# Altium schematic symbol library 1.2 - 存储器-传感元件.SchLib: 25 symbols
Pins are listed as number, name and electrical type; pins without a type are passive.

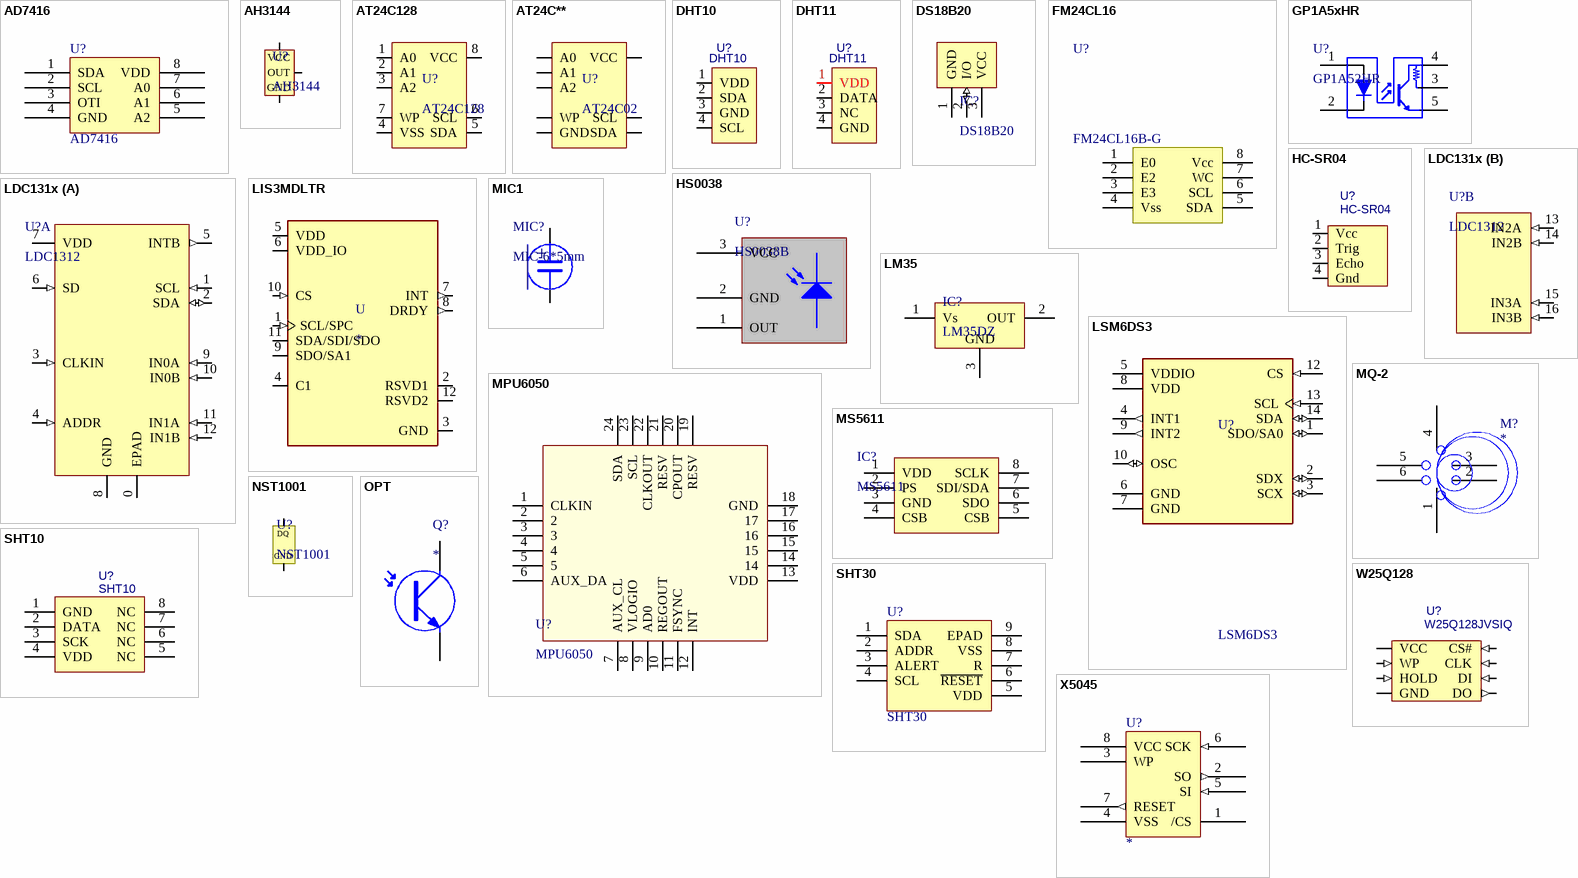
[diagram p0: symbols AD7416 to X5045]

## AD7416
designator U?
数字温度传感器
footprint SOIC-8_150mil (封装库来自淘宝卖家 ID：黄晶宝石)
pins: 1 SDA, 2 SCL, 3 OTI, 4 GND, 5 A2, 6 A1, 7 A0, 8 VDD

## AH3144
designator U?
单极霍尔开关; 封装库来自 淘宝卖家 ID：黄晶宝石: 其他店铺购入均为盗版假冒封装库，请立即申请退款; BOM名称: 单极霍尔开关
footprint TO92UA (92晶体管); pin to pad 2>3 3>2
footprint SOT23-3l (SOT23, 3-Leads, Body 2.9x1.3mm, Pitch 0.95mm, Lead Span 2.4mm, IPC High Density)
footprint SOT23-3M (SOT23, 3-Leads, Body 2.9x1.3mm, Pitch 0.95mm, Lead Span 2.4mm, IPC Low Density)
footprint SOT23-3N (SOT23, 3-Leads, Body 2.9x1.3mm, Pitch 0.95mm, Lead Span 2.4mm, IPC Medium Density)
pins: 1 VCC, 2 GND, 3 OUT

## AT24C128
designator U?
EEROM存储器; 联系卖家，免费查找封装: 唯一出售店铺网址https://shop463601444.taobao.com
footprint SOIC-8W (25Q128 SPI_FLASH  SOIC8)
footprint SOIC-8W_L (25Q128 SPI_FLASH  SOIC8)
footprint SOP8_N (5*6*1.8mm（长宽高）)
footprint SOP8_L (5*6*1.8mm（长宽高）)
footprint SOP8_M (5*6*1.8mm（长宽高）)
pins: 1 A0, 2 A1, 3 A2, 4 VSS, 5 SDA, 6 SCL, 7 WP, 8 VCC

## AT24C**
designator U?, comment AT24C02
EEROM存储器; 联系卖家，免费查找封装: 唯一出售店铺网址https://shop463601444.taobao.com
footprint SOP8_N (5*6*1.8mm（长宽高）)
footprint SOP8_L (5*6*1.8mm（长宽高）)
footprint SOP8_M (5*6*1.8mm（长宽高）)
footprint SOT23-5L (SOT23, 5-Leads, Body 2.9x1.6mm, Pitch 0.95mm, IPC High Density); pin to pad 1>none 2>none 3>none 4>2 5>3 6>1 7>5 8>4
footprint SOT23-5M (SOT23, 5-Leads, Body 2.9x1.6mm, Pitch 0.95mm, IPC Low Density); pin to pad 1>none 2>none 3>none 4>2 5>3 6>1 7>5 8>4
footprint SOT23-5N (SOT23, 5-Leads, Body 2.9x1.6mm, Pitch 0.95mm, IPC Medium Density); pin to pad 1>none 2>none 3>none 4>2 5>3 6>1 7>5 8>4
footprint TSSOP8 (TSSOP-8_L3.0-W4.4-H1.0-LS6.4-P0.65  封装库来自淘宝卖家 ID：黄晶宝石)
footprint TSSOP8_L (TSSOP-8_L3.0-W4.4-H1.0-LS6.4-P0.65)
footprint TSSOP8_M (TSSOP-8_L3.0-W4.4-H1.0-LS6.4-P0.65)
footprint TSSOP8_N (SSOP-8_L3.0-W4.4-H1.0-LS6.4-P0.65)
pins: 1 A0, 2 A1, 3 A2, 4 GND, 5 SDA, 6 SCL, 7 WP, 8 VCC

## DHT10
designator U?
温湿度传感器; 封装库来自 淘宝卖家 ID：黄晶宝石: 其他店铺购入均为盗版假冒封装库，请立即申请退款
footprint HDR2.54-M-LI-4P (排母，4脚  淘宝ID:黄晶宝石   店铺网址:https://shop463601444.taobao.com)
pins: 1 VDD, 2 SDA, 3 GND, 4 SCL

## DHT11
designator U?
电容式温湿度传感器; 封装库来自 淘宝卖家 ID：黄晶宝石: 其他店铺购入均为盗版假冒封装库，请立即申请退款
footprint HT11A
pins: 1 VDD, 2 DATA, 3 NC, 4 GND

## DS18B20
designator IC?
数字温度计; 联系卖家，免费查找封装: 唯一出售店铺网址https://shop463601444.taobao.com; BOM名称: 数字温度计
footprint TO92A (92晶体管)
footprint TO92B (92晶体管)
pins: 1 GND (power), 2 I/O (io), 3 VCC (power)

## FM24CL16
designator U?, comment FM24CL16B-G
铁电存储器; 联系卖家，免费查找封装: 唯一出售店铺网址https://shop463601444.taobao.com
footprint SOIC-8_150MIL (封装库来自淘宝卖家 ID：黄晶宝石)
pins: 1 E0, 2 E2, 3 E3, 4 Vss, 5 SDA, 6 SCL, 7 WC, 8 Vcc

## GP1A5xHR
designator U?, comment GP1A52HR
槽间光电开关; 封装库来自 淘宝卖家 ID：黄晶宝石: 其他店铺购入均为盗版假冒封装库，请立即申请退款; BOM名称: 槽间光电开关
footprint GP1A52HR (长: 12.5mm,宽:5mm,高:10mm,槽宽:3mm)
footprint GP1A53HR (长: 14mm,宽:5.2mm,高:10mm,槽宽:5mm)
pins: 1 A, 2 K, 3, 4, 5

## HC-SR04
designator U?
超声波模块; 唯一出售店铺网址https://shop463601444.taobao.com: 其他店铺购入均为盗版假冒封装库，请立即申请退款; 联系卖家 免费查找封装: 封装库来自淘宝卖家 ID：黄晶宝石; BOM名称: 超声波模块
footprint DIPP2.54
pins: 1 Vcc, 2 Trig, 3 Echo, 4 Gnd

## HS0038
designator U?, comment HS0038B
红外接收器; 封装库来自 淘宝卖家 ID：黄晶宝石: 其他店铺购入均为盗版假冒封装库，请立即申请退款
footprint HS0038B (红外接收头)
pins: 1 OUT, 2 GND, 3 VCC

## LDC131x
designator U?, comment LDC1312
The LDC1312 and LDC1314 is an inductance-to-digital converter (LDC) that measures the oscillation frequency of / multiple LC resonators.; Mfr_Name: Texas Instruments; Manufacturer_Part_Number: LDC1312DNTR; Copyright: Copyright (C) 2023 Ultra Librarian. All rights reserved.; RefDes: RefDes; Type: DEV
footprint WQFN16_4x4_L
footprint WSON12-L
footprint WSON12-M
footprint WSON12
part A pins: 0 EPAD, 1 SCL (in) "I2C Clock input", 2 SDA (io) "I2C Data input/output.", 3 CLKIN (in) "External Reference Clock input. Tie this pin to GND if internal oscillator is used.", 4 ADDR (in) "I2C Address selection pin: when ADDR=L, I2C address = 0x2A, when ADDR=H, I2C address = 0x2B. This input must not be allowed to float.", 5 INTB (out) "Configurable Interrupt output pin. Push-pull output; does not require pullup.", 6 SD (in) "Shutdown input: set SD = L for normal operation, set SD=H for inactive mode. This input must not be allowed to float.", 7 VDD (power), 8 GND (power), 9 IN0A (in) "External LC sensor 0 connection", 10 IN0B (in) "External LC sensor 0 connection", 11 IN1A (in) "External LC sensor 1 connection", 12 IN1B (in) "External LC sensor 1 connection"
part B pins: 13 IN2A (in) "External LC sensor 2 connection (LDC1314 only)", 14 IN2B (in) "External LC sensor 2 connection (LDC1314 only)", 15 IN3A (in) "External LC sensor 3 connection (LDC1314 only)", 16 IN3B (in) "External LC sensor 3 connection (LDC1314 only)"

## LIS3MDLTR
designator U
Magnetoresistive Sensor X, Y, Z Axis LGA-12 _2x2; MF: STMicroelectronics; MP: LIS3MDLTR; Availability: Unavailable; Price: None; SnapEDA_Link: https://www.snapeda.com/parts/LIS3MDLTR/STMicroelectronics/view-part/382740/?ref=snap; Package: VFLGA-12 STMicroelectronics; Value: *
footprint LGA-12-2x2
pins: 1 SCL/SPC (in), 2 RSVD1, 3 GND (power), 4 C1, 5 VDD (power), 6 VDD_IO (power), 7 INT (out), 8 DRDY (out), 9 SDO/SA1 (io), 10 CS (in), 11 SDA/SDI/SDO (io), 12 RSVD2

## LM35
designator IC?, comment LM35DZ
精密温度传感器; 联系卖家，免费查找封装: 唯一出售店铺网址https://shop463601444.taobao.com; BOM名称: 精密温度传感器
footprint TO92A (92晶体管)
footprint TO92B (92晶体管)
pins: 1 Vs, 2 OUT, 3 GND

## LSM6DS3
designator U?
Accelerometer, Gyroscope, Temperature, 6 Axis Sensor, I2C/SPI Output; Manufacturer: STMicroelectronics; value: LSM6DS3TR
footprint LGA-14_L3.0-W2.5-P0.50-TL
pins: 1 SDO/SA0 (io), 2 SDX (io), 3 SCX (io), 4 INT1 (out), 5 VDDIO (power), 6 GND (power), 7 GND (power), 8 VDD (power), 9 INT2 (out), 10 OSC (io), 12 CS (in), 13 SCL (in), 14 SDA (io)

## MIC1
designator MIC?, comment MIC-6*5mm
电容麦克风; 封装库来自 淘宝卖家 ID：黄晶宝石: 其他店铺购入均为盗版假冒封装库，请立即申请退款; BOM名称: 电容麦克风
footprint MIC-6*5.5mm (咪咪头)
footprint MIC-4.5*1.9 (咪咪头)
pins: 1, 2
text: +

## MPU6050
designator U?
三轴加速度+三轴陀螺仪; 联系卖家，免费查找封装: 唯一出售店铺网址https://shop463601444.taobao.com
footprint QFN24 4x4_M (24脚，长x宽x高：4x4x1mm，脚距：0.5mm)
footprint QFN24 4x4_N (24脚，长x宽x高：4x4x1mm，脚距：0.5mm)
pins: 1 CLKIN, 2, 3, 4, 5, 6 AUX_DA, 7 AUX_CL, 8 VLOGIO, 9 AD0, 10 REGOUT, 11 FSYNC, 12 INT, 13 VDD, 14, 15, 16, 17, 18 GND, 19 RESV, 20 CPOUT, 21 RESV, 22 CLKOUT, 23 SCL, 24 SDA

## MQ-2
designator M?
气体传感器; 联系卖家，免费查找封装: 唯一出售店铺网址https://shop463601444.taobao.com
footprint MQ-2 (Footprint not found)
pins: 1 H1, 2, 3 A1, 4 H2, 5 A2, 6 B2
1 alternate drawing of the same symbol

## MS5611
designator IC?
气压传感器; 封装库来自 淘宝卖家 ID：黄晶宝石: 其他店铺购入均为盗版假冒封装库，请立即申请退款; BOM名称: 气压传感器
footprint MS5611 (气压传感芯片)
pins: 1 VDD, 2 PS, 3 GND, 4 CSB, 5 CSB, 6 SDO, 7 SDI/SDA, 8 SCLK

## NST1001
designator U?
温度传感器，高精度双引脚数字脉冲输出
footprint TO92C (TO, Flat Index; 3 In-Line, Axial Leads; Body Dia. 4.5mm; Leads 0.51 x 0.48 mm (max)); pin to pad 2>3
footprint DFN2L (DFN-2_L1.6-W0.8-H0.5-P0.85)
pins: 1 DO, 2 GND
text: DQ

## OPT
designator Q?
红外接收管; 封装库来自 淘宝卖家 ID：黄晶宝石: 其他店铺购入均为盗版假冒封装库，请立即申请退款; BOM名称: 红外接收管
footprint OPT-3MM (3mm红外接收管)
footprint OPT-5MM (5mm红外接收管)
pins: 1, 2

## SHT10
designator U?
温湿度传感器; 唯一出售店铺网址https://shop463601444.taobao.com: 其他店铺购入均为盗版假冒封装库，请立即申请退款; 联系卖家 免费查找封装: 封装库来自淘宝卖家 ID：黄晶宝石; BOM名称: SHT10
footprint LGA-10P-L4.9-W7.5-P1.27 (Footprint not found)
pins: 1 GND, 2 DATA, 3 SCK, 4 VDD, 5 NC, 6 NC, 7 NC, 8 NC

## SHT30
designator U?
温湿度传感器，I2C接口
footprint DFN2*2_8P
pins: 1 SDA, 2 ADDR, 3 ALERT, 4 SCL, 5 VDD, 6 ~{RESET}, 7 R, 8 VSS, 9 EPAD

## W25Q128
designator U?, comment W25Q128JVSIQ
SPI FLASH; 封装库来自 淘宝卖家 ID：黄晶宝石: 其他店铺购入均为盗版假冒封装库，请立即申请退款
footprint SOIC-8W
pins: 1 CS# (in), 2 DO (out), 3 WP (in), 4 GND, 5 DI (in), 6 CLK (in), 7 HOLD (in), 8 VCC

## X5045
designator U?
EEPROM+Watchdog; 封装库来自 淘宝卖家 ID：黄晶宝石: 其他店铺购入均为盗版假冒封装库，请立即申请退款
footprint DIP-8 (9.4*7.6*3.8(长宽高）)
pins: 1 /CS, 2 SO (out), 3 WP, 4 VSS (power), 5 SI (in), 6 SCK (in), 7 RESET (out), 8 VCC (power)